# Altium footprint library MFL COMPASS ANTENNA.PcbLib: 1 footprints
Each footprint in its own frame and in the unit in brackets; x right, y up, seen from the top. Pads: shape width x height; smd on the part's side, far side on the other; paste and mask are expansions set on the pad; w line width, h text height; cw(c..) or ccw(c..) is an arc to the next point about the centre after c.
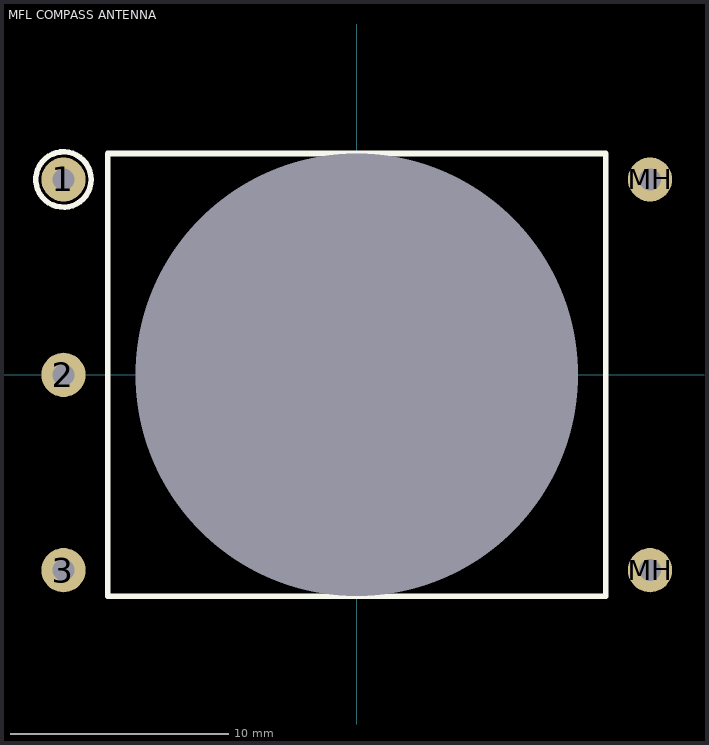
[diagram p0: the footprint, top view; thin cyan lines are the x and y axes]

## MFL COMPASS ANTENNA [mil]
height 390
pads (6):
  round 80 hole 40: 1(-530,353) 2(-530,0) 3(-530,-353) MH(530,-353) MH(530,353)
  round 0 hole 800 unplated: MH(0,0)
TopOverlay:
  circle w10: c-530,353 r50
  lines w10: -450,400 -450,-400 450,-400 450,400 -449,400
3D body: height 948, standoff -1052, extent -542.5,-392.99 542.5,393.01